# Altium footprint library 3329H.PcbLib: 1 footprints
Each footprint in its own frame and in the unit in brackets; x right, y up, seen from the top. Pads: shape width x height; smd on the part's side, far side on the other; paste and mask are expansions set on the pad; w line width, h text height; cw(c..) or ccw(c..) is an arc to the next point about the centre after c.
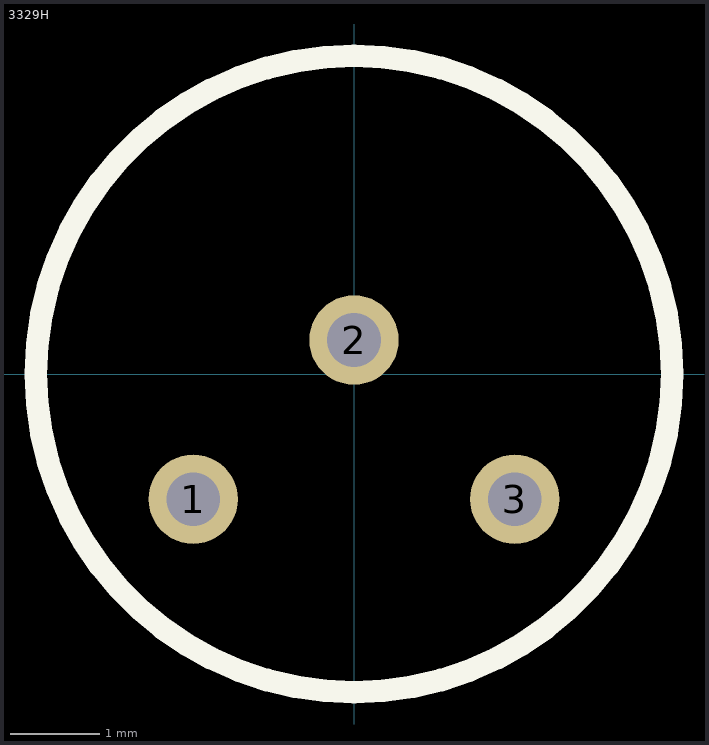
[diagram p0: the footprint, top view; thin cyan lines are the x and y axes]

## 3329H [mm]
pads (3):
  round 1 hole 0.6: 1(-1.8,-1.4) 2(0,0.38) 3(1.8,-1.4)
Top Overlay:
  circle w0.254: c0,0 r3.56
3D body "3329H-1-252LF.STEP": height 4.57, standoff -9.02, extent -3.175,-3.175 3.175,3.175